# EAGLE library part DIPSW8 (library 8P_DIPSW - コピー)
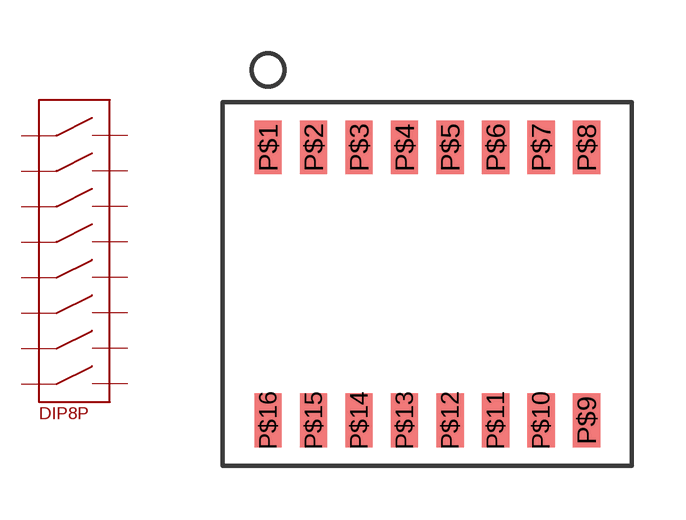
[diagram p0: symbol with the pads of DIPSW8; footprint DIPSW8]

Designator prefix -

## DIPSW8  [DIPSW8]
P$1  P$1
P$2  P$2
P$3  P$3
P$4  P$4
P$5  P$5
P$6  P$6
P$7  P$7
P$8  P$8
P$9  P$9
P$10  P$10
P$11  P$11
P$12  P$12
P$13  P$13
P$14  P$14
P$15  P$15
P$16  P$16

## Footprint DIPSW8 (pad centres in mm)
smd 0.76 x 1.5: P$1 0,7.62; P$2 1.27,7.62; P$3 2.54,7.62; P$4 3.81,7.62; P$5 5.08,7.62; P$6 6.35,7.62; P$7 7.62,7.62; P$8 8.89,7.62; P$9 8.89,0; P$10 7.62,0; P$11 6.35,0; P$12 5.08,0; P$13 3.81,0; P$14 2.54,0; P$15 1.27,0; P$16 0,0